# Altium schematic symbol library OLED_SSD1306_I2C.SchLib: 1 symbol
Pins are listed as number, name and electrical type; pins without a type are passive.

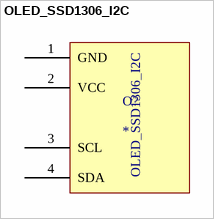
[diagram p0: symbol OLED_SSD1306_I2C]

## OLED_SSD1306_I2C
designator O?
footprint OLED_SSD1306_I2C
pins: 1 GND, 2 VCC, 3 SCL, 4 SDA